# EAGLE library part ATMEGA16 (library satellite)
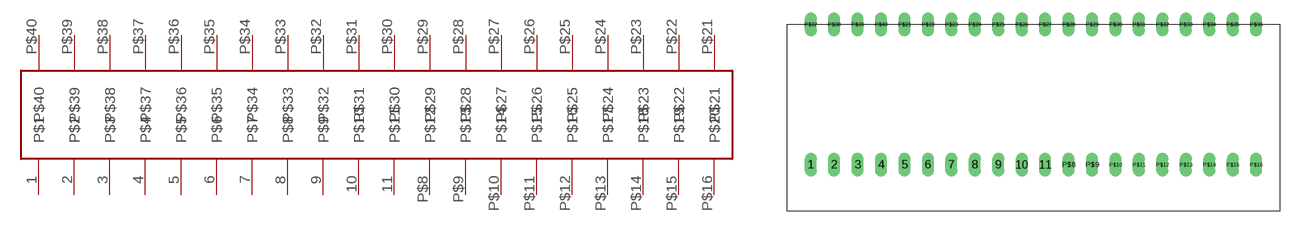
[diagram p3: symbol with the pads of DIP40; footprint DIP40]

Designator prefix -

## ATMEGA16  [DIP40]
1  P$1
2  P$2
3  P$3
4  P$4
5  P$5
6  P$6
7  P$7
8  P$8
9  P$9
10  P$10
11  P$11
P$8  P$12
P$9  P$13
P$10  P$14
P$11  P$15
P$12  P$16
P$13  P$17
P$14  P$18
P$15  P$19
P$16  P$20
P$21  P$21
P$22  P$22
P$23  P$23
P$24  P$24
P$25  P$25
P$26  P$26
P$27  P$27
P$28  P$28
P$29  P$29
P$30  P$30
P$31  P$31
P$32  P$32
P$33  P$33
P$34  P$34
P$35  P$35
P$36  P$36
P$37  P$37
P$38  P$38
P$39  P$39
P$40  P$40

## Footprint DIP40 (pad centres in mm)
drill 0.8 long: 1 -25.4,-7.62; 2 -22.86,-7.62; 3 -20.32,-7.62; 4 -17.78,-7.62; 5 -15.24,-7.62; 6 -12.7,-7.62; 7 -10.16,-7.62; 8 -7.62,-7.62; 9 -5.08,-7.62; 10 -2.54,-7.62; 11 0,-7.62; P$8 2.54,-7.62; P$9 5.08,-7.62; P$10 7.62,-7.62; P$11 10.16,-7.62; P$12 12.7,-7.62; P$13 15.24,-7.62; P$14 17.78,-7.62; P$15 20.32,-7.62; P$16 22.86,-7.62; P$21 -15.24,7.62; P$22 -12.7,7.62; P$23 -10.16,7.62; P$24 -7.62,7.62; P$25 -5.08,7.62; P$26 -2.54,7.62; P$27 0,7.62; P$28 2.54,7.62; P$29 5.08,7.62; P$30 7.62,7.62; P$31 10.16,7.62; P$32 12.7,7.62; P$33 15.24,7.62; P$34 17.78,7.62; P$35 20.32,7.62; P$36 22.86,7.62; P$37 -25.4,7.62; P$38 -22.86,7.62; P$39 -20.32,7.62; P$40 -17.78,7.62